# EAGLE library part ATTINY84 (library EmitterParts)
AVR AVR® ATtiny Microcontroller IC 8-Bit 16MHz 8KB (8K x 8) FLASH 14-SOIC DigiKey <https://www.digikey.com/product-detail/en/microchip-technology/ATTINY841-SSUR/ATTINY841-SSURCT-ND/4437442>
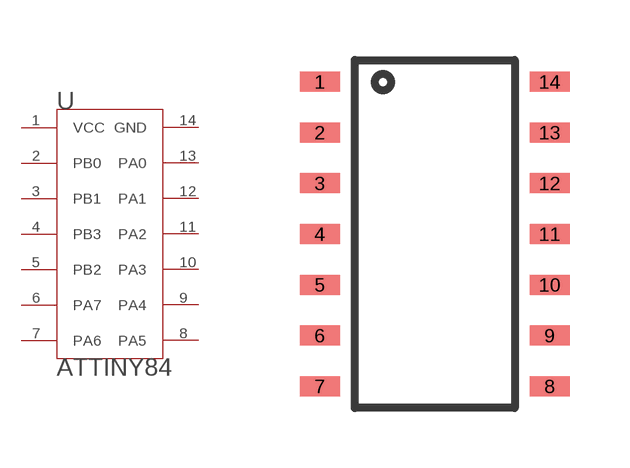
[diagram p0: symbol with the pads of SOIC-14; footprint SOIC-14]

Designator prefix U

## ATTINY84 (DKPN: ATTINY841-SSURCT-ND)  [SOIC-14]
1  VCC  pas
2  PB0  pas
3  PB1  pas
4  PB3  pas
5  PB2  pas
6  PA7  pas
7  PA6  pas
8  PA5  pas
9  PA4  pas
10  PA3  pas
11  PA2  pas
12  PA1  pas
13  PA0  pas
14  GND  pas

## Footprint SOIC-14 (pad centres in mm)
smd 1 x 0.5: 1 -2.875,3.81; 2 -2.875,2.54; 3 -2.875,1.27; 4 -2.875,0; 5 -2.875,-1.27; 6 -2.875,-2.54; 7 -2.875,-3.81; 8 2.875,-3.81; 9 2.875,-2.54; 10 2.875,-1.27; 11 2.875,0; 12 2.875,1.27; 13 2.875,2.54; 14 2.875,3.81